# Altium schematic symbol library PicoBlade.SchLib: 7 symbols
Pins are listed as number, name and electrical type; pins without a type are passive.

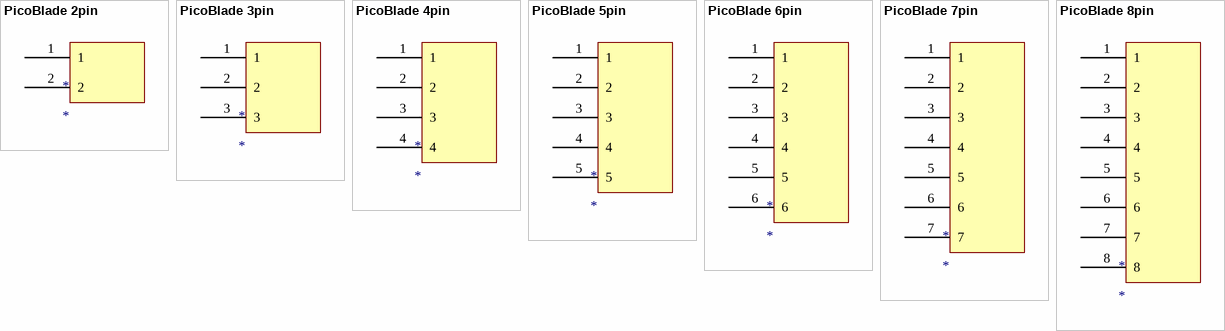
[diagram p0: symbols PicoBlade 2pin to PicoBlade 8pin]

## PicoBlade 2pin
designator *
pins: 1, 2

## PicoBlade 3pin
designator *
pins: 1, 2, 3

## PicoBlade 4pin
designator *
pins: 1, 2, 3, 4

## PicoBlade 5pin
designator *
pins: 1, 2, 3, 4, 5

## PicoBlade 6pin
designator *
pins: 1, 2, 3, 4, 5, 6

## PicoBlade 7pin
designator *
pins: 1, 2, 3, 4, 5, 6, 7

## PicoBlade 8pin
designator *
pins: 1, 2, 3, 4, 5, 6, 7, 8